# Altium footprint library PCB_Footprint.PcbLib: 124 footprints (part 8 of 8)
Each footprint in its own frame and in the unit in brackets; x right, y up, seen from the top. Pads: shape width x height; smd on the part's side, far side on the other; paste and mask are expansions set on the pad; w line width, h text height; cw(c..) or ccw(c..) is an arc to the next point about the centre after c.
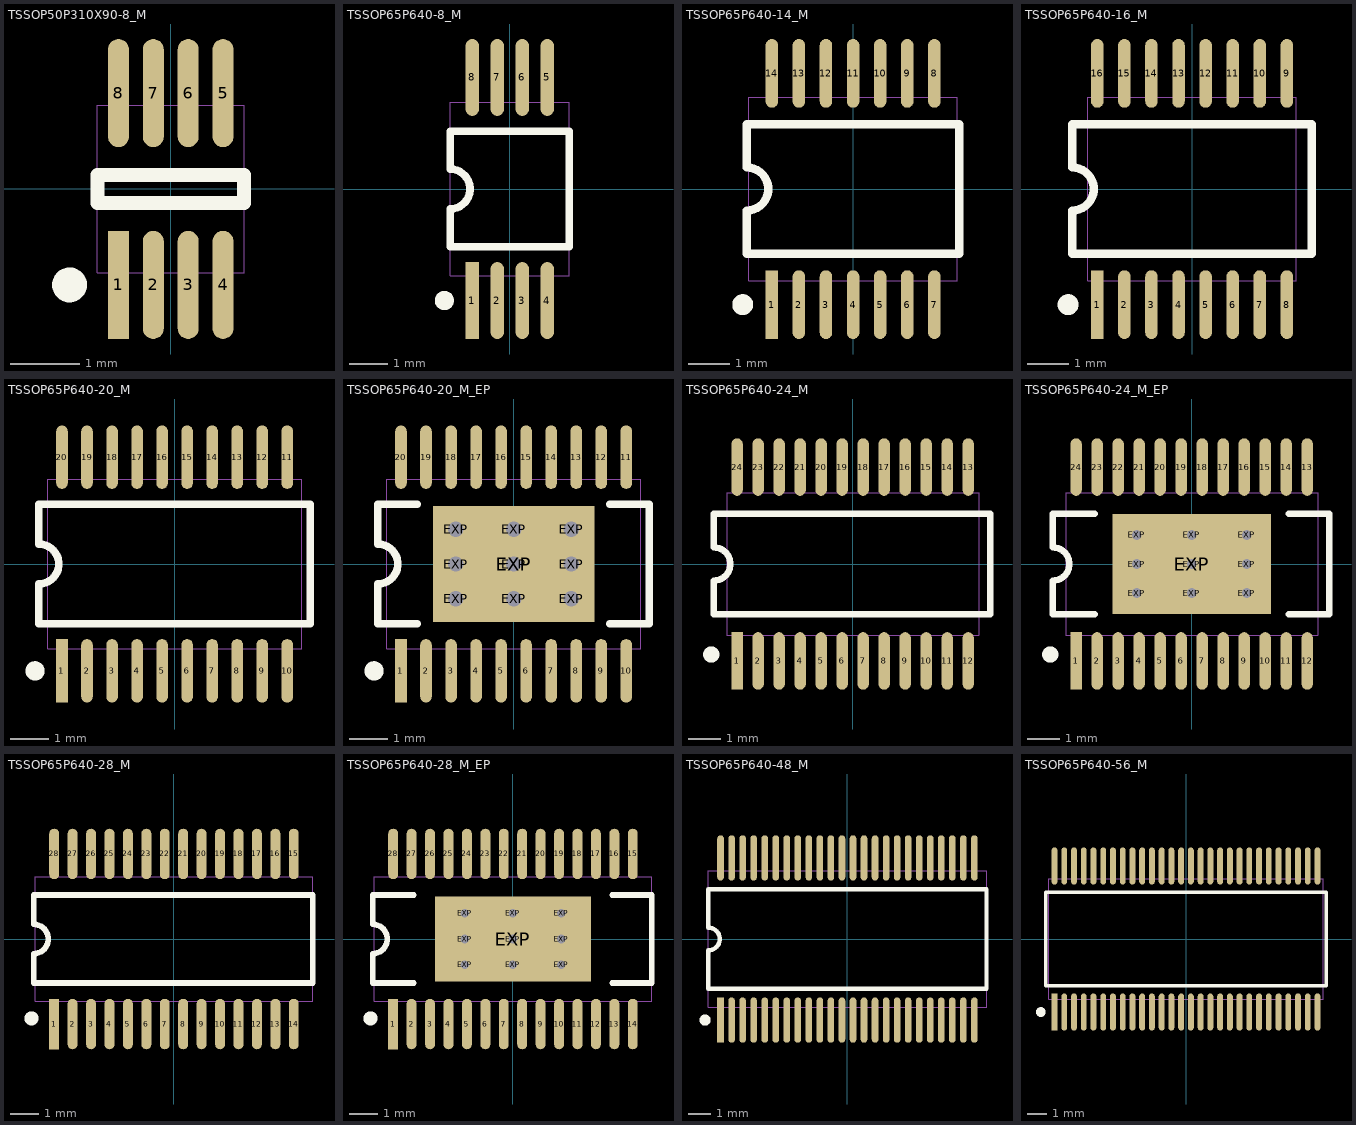
[diagram p7: the footprints below, top view; thin cyan lines are the x and y axes]

## TSSOP50P310X90-8_M [mm] "TSSOP, 8-Leads, Body 2,1x2,4mm (max), Pitch 0,50mm, IPC Low Density"
height 0.9
pads (8):
  rect 0.3x1.55 smd: 1(-0.75,-1.375)
  oval 0.3x1.55 smd: 2(-0.25,-1.375) 3(0.25,-1.375) 4(0.75,-1.375) 5(0.75,1.375) 6(0.25,1.375) 7(-0.25,1.375) 8(-0.75,1.375)
Top Overlay:
  circle w0.25: c-1.45,-1.375 r0.125
  lines w0.2: -1.05,-0.2 1.05,-0.2 1.05,0.2 -1.05,0.2 -1.05,-0.2
Component Body:
  lines w0.01: -1.05,-1.2 1.05,-1.2 1.05,1.2 -1.05,1.2 -1.05,-1.2
3D body: height 0.9, standoff 0.1, extent -1.05,-1.2 1.05,1.2

## TSSOP65P640-8_M [mm] "Thin Shrink Small Outline, TSSOP, 8-Leads, Body 3x4.4mm, Pitch 0.65mm, IPC Low Density"
height 1.2
pads (8):
  rect 0.35x2 smd: 1(-0.975,-2.9)
  oval 0.35x2 smd: 2(-0.325,-2.9) 3(0.325,-2.9) 4(0.975,-2.9) 5(0.975,2.9) 6(0.325,2.9) 7(-0.325,2.9) 8(-0.975,2.9)
Top Overlay:
  circle w0.25: c-1.7,-2.9 r0.125
  lines w0.2: -1.55,-1.5 1.55,-1.5 1.55,1.5 -1.55,1.5 -1.55,0.517 cw(c-1.55,0) -1.55,-0.517 -1.55,-1.5
Component Body:
  lines w0.01: -1.55,-2.25 1.55,-2.25 1.55,2.25 -1.55,2.25 -1.55,-2.25
3D body: height 1.2, standoff 0, extent -1.55,-2.25 1.55,2.25

## TSSOP65P640-14_M [mm] "Thin Shrink Small Outline, TSSOP; 14 Leads; Body Width 4.4 mm; Pitch 0.65 mm, IPC Low Density"
height 1.2
pads (14):
  rect 0.3x1.65 smd: 1(-1.95,-2.775)
  oval 0.3x1.65 smd: 2(-1.3,-2.775) 3(-0.65,-2.775) 4(0,-2.775) 5(0.65,-2.775) 6(1.3,-2.775) 7(1.95,-2.775) 8(1.95,2.775) 9(1.3,2.775) 10(0.65,2.775) 11(0,2.775) 12(-0.65,2.775) 13(-1.3,2.775) 14(-1.95,2.775)
Top Overlay:
  circle w0.25: c-2.65,-2.775 r0.125
  lines w0.2: -2.55,-1.55 2.55,-1.55 2.55,1.55 -2.55,1.55 -2.55,0.517 cw(c-2.55,0) -2.55,-0.517 -2.55,-1.55
Component Body:
  lines w0.01: -2.5,-2.2 -2.5,2.2 2.5,2.2 2.5,-2.2 -2.5,-2.2
3D body: height 1.2, standoff 0, extent -2.5,-2.2 2.5,2.2

## TSSOP65P640-16_M [mm] "Thin Shrink Small Outline, TSSOP; 16 Leads; Body Width 4.4 mm; Pitch 0.65 mm, IPC Low Density"
height 1.2
pads (16):
  rect 0.3x1.65 smd: 1(-2.275,-2.775)
  oval 0.3x1.65 smd: 2(-1.625,-2.775) 3(-0.975,-2.775) 4(-0.325,-2.775) 5(0.325,-2.775) 6(0.975,-2.775) 7(1.625,-2.775) 8(2.275,-2.775) 9(2.275,2.775) 10(1.625,2.775) 11(0.975,2.775) 12(0.325,2.775) 13(-0.325,2.775) 14(-0.975,2.775) 15(-1.625,2.775) 16(-2.275,2.775)
Top Overlay:
  circle w0.25: c-2.975,-2.775 r0.125
  lines w0.2: -2.875,-1.55 2.875,-1.55 2.875,1.55 -2.875,1.55 -2.875,0.517 cw(c-2.875,0) -2.875,-0.517 -2.875,-1.55
Component Body:
  lines w0.01: -2.5,-2.2 -2.5,2.2 2.5,2.2 2.5,-2.2 -2.5,-2.2
3D body: height 1.2, standoff 0, extent -2.5,-2.2 2.5,2.2

## TSSOP65P640-20_M [mm] "Thin Shrink Small Outline, TSSOP; 20 Leads; Body Width 4.4 mm; Pitch 0.65 mm, IPC Low Density"
height 1.2
pads (20):
  rect 0.3x1.65 smd: 1(-2.925,-2.775)
  oval 0.3x1.65 smd: 2(-2.275,-2.775) 3(-1.625,-2.775) 4(-0.975,-2.775) 5(-0.325,-2.775) 6(0.325,-2.775) 7(0.975,-2.775) 8(1.625,-2.775) 9(2.275,-2.775) 10(2.925,-2.775) 11(2.925,2.775) 12(2.275,2.775) 13(1.625,2.775) 14(0.975,2.775) 15(0.325,2.775) 16(-0.325,2.775) 17(-0.975,2.775) 18(-1.625,2.775) 19(-2.275,2.775) 20(-2.925,2.775)
Top Overlay:
  circle w0.25: c-3.625,-2.775 r0.125
  lines w0.2: -3.525,-1.55 -3.525,-0.517 ccw(c-3.525,0) -3.525,0.517 -3.525,1.55 3.525,1.55 3.525,-1.55 -3.525,-1.55
Component Body:
  lines w0.01: -3.299,-2.199 3.299,-2.199 3.299,2.199 -3.299,2.199 -3.299,-2.199
3D body: height 1.2, standoff 0, extent -3.299,-2.199 3.299,2.199

## TSSOP65P640-20_M_EP [mm] "Thin Shrink Small Outline, TSSOP; 20 Leads; Body Width 4.4 mm; Pitch 0.65 mm, with exposed pad, IPC Low Density"
height 1.2
pads (30):
  rect 0.3x1.65 smd: 1(-2.925,-2.775)
  oval 0.3x1.65 smd: 2(-2.275,-2.775) 3(-1.625,-2.775) 4(-0.975,-2.775) 5(-0.325,-2.775) 6(0.325,-2.775) 7(0.975,-2.775) 8(1.625,-2.775) 9(2.275,-2.775) 10(2.925,-2.775) 11(2.925,2.775) 12(2.275,2.775) 13(1.625,2.775) 14(0.975,2.775) 15(0.325,2.775) 16(-0.325,2.775) 17(-0.975,2.775) 18(-1.625,2.775) 19(-2.275,2.775) 20(-2.925,2.775)
  round 0.8 hole 0.4: EXP(-1.5,-0.9) EXP(-1.5,0) EXP(-1.5,0.9) EXP(0,-0.9) EXP(0,0) EXP(0,0.9) EXP(1.5,-0.9) EXP(1.5,0) EXP(1.5,0.9)
  rect 4.2x3 smd: EXP(0,0)
Top Overlay:
  circle w0.25: c-3.625,-2.775 r0.125
  lines w0.2: -2.5,-1.55 -3.525,-1.55 -3.525,-0.517 ccw(c-3.525,0) -3.525,0.517 -3.525,1.55 -2.5,1.55 ; 2.5,-1.55 3.525,-1.55 3.525,1.55 2.5,1.55
Component Body:
  lines w0.01: -3.299,-2.199 -3.299,2.199 3.299,2.199 3.299,-2.199 -3.299,-2.199
3D body: height 1.2, standoff 0, extent -3.299,-2.199 3.299,2.199

## TSSOP65P640-24_M [mm] "Thin Shrink Small Outline, TSSOP; 24 Leads; Body Width 4.4 mm; Pitch 0.65 mm, IPC Low Density"
height 1.2
pads (24):
  rect 0.35x1.78 smd: 1(-3.575,-3)
  oval 0.35x1.78 smd: 2(-2.925,-3) 3(-2.275,-3) 4(-1.625,-3) 5(-0.975,-3) 6(-0.325,-3) 7(0.325,-3) 8(0.975,-3) 9(1.625,-3) 10(2.275,-3) 11(2.925,-3) 12(3.575,-3) 13(3.575,3) 14(2.925,3) 15(2.275,3) 16(1.625,3) 17(0.975,3) 18(0.325,3) 19(-0.325,3) 20(-0.975,3) 21(-1.625,3) 22(-2.275,3) 23(-2.925,3) 24(-3.575,3)
Top Overlay:
  circle w0.25: c-4.375,-2.8 r0.125
  lines w0.2: -4.3,-1.55 -4.3,-0.517 ccw(c-4.3,0) -4.3,0.517 -4.3,1.55 4.25,1.55 4.25,-1.55 -4.3,-1.55
Component Body:
  lines w0.01: -3.9,-2.2 3.9,-2.2 3.9,2.2 -3.9,2.2 -3.9,-2.2
3D body: height 1.2, standoff 0, extent -3.899,-2.2 3.899,2.199

## TSSOP65P640-24_M_EP [mm] "Thin Shrink Small Outline, TSSOP; 24 Leads; Body Width 4.4 mm; Pitch 0.65 mm, with exposed pad, IPC Low Density"
height 1.2
pads (34):
  rect 0.35x1.78 smd: 1(-3.575,-3)
  oval 0.35x1.78 smd: 2(-2.925,-3) 3(-2.275,-3) 4(-1.625,-3) 5(-0.975,-3) 6(-0.325,-3) 7(0.325,-3) 8(0.975,-3) 9(1.625,-3) 10(2.275,-3) 11(2.925,-3) 12(3.575,-3) 13(3.575,3) 14(2.925,3) 15(2.275,3) 16(1.625,3) 17(0.975,3) 18(0.325,3) 19(-0.325,3) 20(-0.975,3) 21(-1.625,3) 22(-2.275,3) 23(-2.925,3) 24(-3.575,3)
  round 0.65 hole 0.3: EXP(-1.7,-0.9) EXP(-1.7,0) EXP(-1.7,0.9) EXP(0,-0.9) EXP(0,0) EXP(0,0.9) EXP(1.7,-0.9) EXP(1.7,0) EXP(1.7,0.9)
  rect 4.9x3.1 smd: EXP(0,0)
Top Overlay:
  circle w0.25: c-4.375,-2.8 r0.125
  lines w0.2: -3,-1.55 -4.3,-1.55 -4.3,-0.517 ccw(c-4.3,0) -4.3,0.517 -4.3,1.55 -3,1.55 ; 3,-1.55 4.25,-1.55 4.25,1.55 3,1.55
Component Body:
  lines w0.01: -3.9,-2.2 -3.9,2.2 3.9,2.2 3.9,-2.2 -3.9,-2.2
3D body: height 1.2, standoff 0, extent -3.899,-2.2 3.899,2.199

## TSSOP65P640-28_M [mm] "Thin Shrink Small Outline, TSSOP; 28 Leads; Body Width 4.4 mm; Pitch 0.65 mm, IPC Low Density"
height 1.2
pads (28):
  rect 0.35x1.78 smd: 1(-4.225,-3)
  oval 0.35x1.78 smd: 2(-3.575,-3) 3(-2.925,-3) 4(-2.275,-3) 5(-1.625,-3) 6(-0.975,-3) 7(-0.325,-3) 8(0.325,-3) 9(0.975,-3) 10(1.625,-3) 11(2.275,-3) 12(2.925,-3) 13(3.575,-3) 14(4.225,-3) 15(4.225,3) 16(3.575,3) 17(2.925,3) 18(2.275,3) 19(1.625,3) 20(0.975,3) 21(0.325,3) 22(-0.325,3) 23(-0.975,3) 24(-1.625,3) 25(-2.275,3) 26(-2.925,3) 27(-3.575,3) 28(-4.225,3)
Top Overlay:
  circle w0.25: c-5.025,-2.8 r0.125
  lines w0.2: -4.95,-1.55 -4.95,-0.517 ccw(c-4.95,0) -4.95,0.517 -4.95,1.55 4.9,1.55 4.9,-1.55 -4.95,-1.55
Component Body:
  lines w0.01: -4.9,-2.2 -4.9,2.2 4.9,2.2 4.9,-2.2 -4.9,-2.2
3D body: height 1.2, standoff 0, extent -4.9,-2.2 4.9,2.2

## TSSOP65P640-28_M_EP [mm] "Thin Shrink Small Outline, TSSOP; 28 Leads; Body Width 4.4 mm; Pitch 0.65 mm, with exposed pad, IPC Low Density"
height 1.2
pads (38):
  rect 0.35x1.78 smd: 1(-4.225,-3)
  oval 0.35x1.78 smd: 2(-3.575,-3) 3(-2.925,-3) 4(-2.275,-3) 5(-1.625,-3) 6(-0.975,-3) 7(-0.325,-3) 8(0.325,-3) 9(0.975,-3) 10(1.625,-3) 11(2.275,-3) 12(2.925,-3) 13(3.575,-3) 14(4.225,-3) 15(4.225,3) 16(3.575,3) 17(2.925,3) 18(2.275,3) 19(1.625,3) 20(0.975,3) 21(0.325,3) 22(-0.325,3) 23(-0.975,3) 24(-1.625,3) 25(-2.275,3) 26(-2.925,3) 27(-3.575,3) 28(-4.225,3)
  round 0.65 hole 0.3: EXP(-1.7,-0.9) EXP(-1.7,0) EXP(-1.7,0.9) EXP(0,-0.9) EXP(0,0) EXP(0,0.9) EXP(1.7,-0.9) EXP(1.7,0) EXP(1.7,0.9)
  rect 5.5x3 smd: EXP(0,0)
Top Overlay:
  circle w0.25: c-5.025,-2.8 r0.125
  lines w0.2: -3.5,-1.55 -4.95,-1.55 -4.95,-0.517 ccw(c-4.95,0) -4.95,0.517 -4.95,1.55 -3.5,1.55 ; 3.5,-1.55 4.9,-1.55 4.9,1.55 3.5,1.55
Component Body:
  lines w0.01: -4.9,-2.2 4.9,-2.2 4.9,2.2 -4.9,2.2 -4.9,-2.2
3D body: height 1.2, standoff 0, extent -4.9,-2.2 4.9,2.2

## TSSOP65P640-48_M [mm] "TSSOP, 48-Leads, Body 12.5x6.1mm, Pitch 0.5mm, IPC Low Density"
height 1.1
pads (48):
  rect 0.3x2.05 smd: 1(-5.75,-3.675)
  oval 0.3x2.05 smd: 2(-5.25,-3.675) 3(-4.75,-3.675) 4(-4.25,-3.675) 5(-3.75,-3.675) 6(-3.25,-3.675) 7(-2.75,-3.675) 8(-2.25,-3.675) 9(-1.75,-3.675) 10(-1.25,-3.675) 11(-0.75,-3.675) 12(-0.25,-3.675) 13(0.25,-3.675) 14(0.75,-3.675) 15(1.25,-3.675) 16(1.75,-3.675) 17(2.25,-3.675) 18(2.75,-3.675) 19(3.25,-3.675) 20(3.75,-3.675) 21(4.25,-3.675) 22(4.75,-3.675) 23(5.25,-3.675) 24(5.75,-3.675) 25(5.75,3.675) 26(5.25,3.675) 27(4.75,3.675) 28(4.25,3.675) 29(3.75,3.675) 30(3.25,3.675) 31(2.75,3.675) 32(2.25,3.675) 33(1.75,3.675) 34(1.25,3.675) 35(0.75,3.675) 36(0.25,3.675) 37(-0.25,3.675) 38(-0.75,3.675) 39(-1.25,3.675) 40(-1.75,3.675) 41(-2.25,3.675) 42(-2.75,3.675) 43(-3.25,3.675) 44(-3.75,3.675) 45(-4.25,3.675) 46(-4.75,3.675) 47(-5.25,3.675) 48(-5.75,3.675)
Top Overlay:
  circle w0.25: c-6.45,-3.675 r0.125
  lines w0.2: -6.3,-2.25 6.3,-2.25 6.3,2.25 -6.3,2.25 -6.3,0.517 cw(c-6.3,0) -6.3,-0.517 -6.3,-2.25
Component Body:
  lines w0.01: -6.3,-3.1 6.3,-3.1 6.3,3.1 -6.3,3.1 -6.3,-3.1
3D body: height 1.1, standoff 0, extent -6.3,-3.1 6.3,3.1

## TSSOP65P640-56_M [mm] "TSSOP, 56-Leads, Body 14x6.1mm, Pitch 0.5mm, IPC Low Density"
height 1.1
pads (56):
  rect 0.3x1.9 smd: 1(-6.75,-3.75)
  oval 0.3x1.9 smd: 2(-6.25,-3.75) 3(-5.75,-3.75) 4(-5.25,-3.75) 5(-4.75,-3.75) 6(-4.25,-3.75) 7(-3.75,-3.75) 8(-3.25,-3.75) 9(-2.75,-3.75) 10(-2.25,-3.75) 11(-1.75,-3.75) 12(-1.25,-3.75) 13(-0.75,-3.75) 14(-0.25,-3.75) 15(0.25,-3.75) 16(0.75,-3.75) 17(1.25,-3.75) 18(1.75,-3.75) 19(2.25,-3.75) 20(2.75,-3.75) 21(3.25,-3.75) 22(3.75,-3.75) 23(4.25,-3.75) 24(4.75,-3.75) 25(5.25,-3.75) 26(5.75,-3.75) 27(6.25,-3.75) 28(6.75,-3.75) 29(6.75,3.75) 30(6.25,3.75) 31(5.75,3.75) 32(5.25,3.75) 33(4.75,3.75) 34(4.25,3.75) 35(3.75,3.75) 36(3.25,3.75) 37(2.75,3.75) 38(2.25,3.75) 39(1.75,3.75) 40(1.25,3.75) 41(0.75,3.75) 42(0.25,3.75) 43(-0.25,3.75) 44(-0.75,3.75) 45(-1.25,3.75) 46(-1.75,3.75) 47(-2.25,3.75) 48(-2.75,3.75) 49(-3.25,3.75) 50(-3.75,3.75) 51(-4.25,3.75) 52(-4.75,3.75) 53(-5.25,3.75) 54(-5.75,3.75) 55(-6.25,3.75) 56(-6.75,3.75)
Top Overlay:
  circle w0.25: c-7.45,-3.75 r0.125
  lines w0.2: -7.2,-2.4 -7.2,2.4 7.2,2.4 7.2,-2.4 -7.2,-2.4
Component Body:
  lines w0.01: -7.05,-3.1 -7.05,3.1 7.05,3.1 7.05,-3.1 -7.05,-3.1
3D body: height 1.1, standoff 0, extent -7.05,-3.1 7.05,3.1